# Altium schematic symbol library MySchLib.SchLib: 53 symbols
Pins are listed as number, name and electrical type; pins without a type are passive.

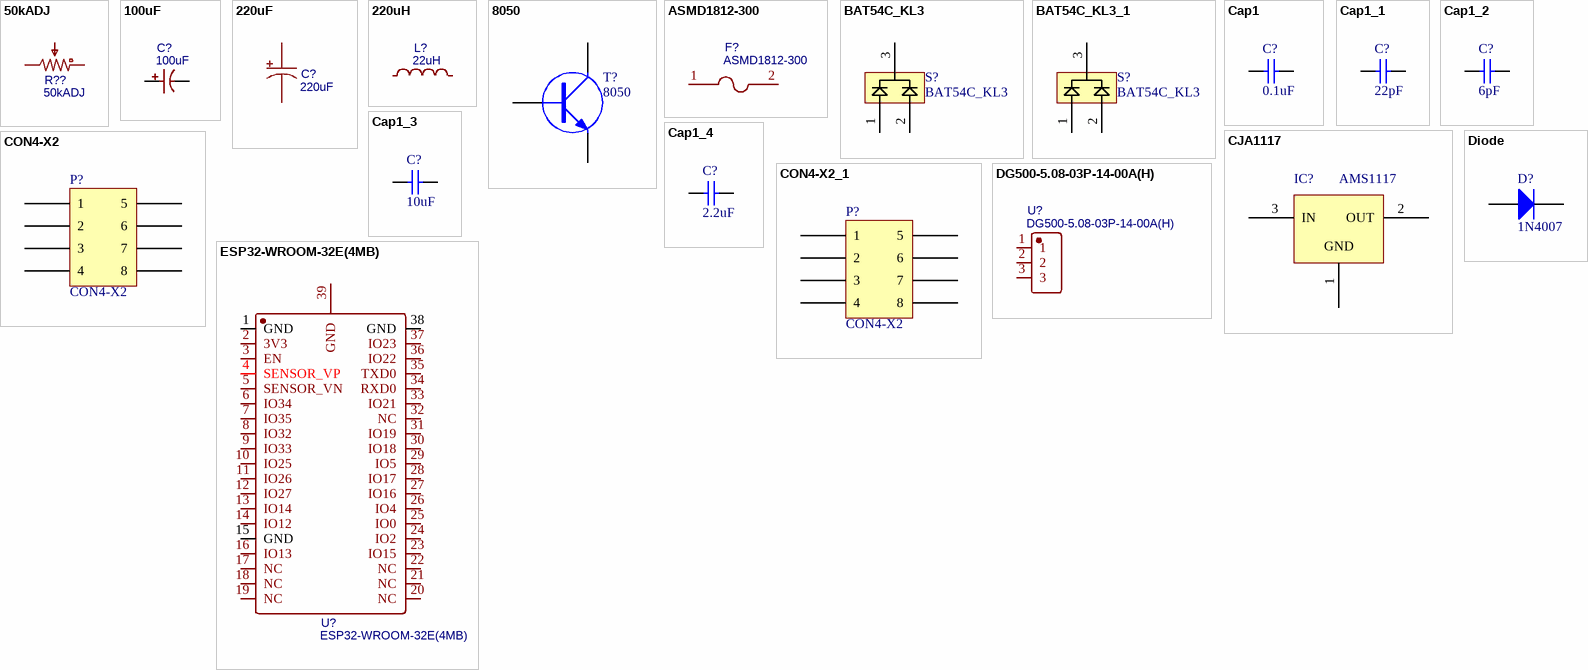
[diagram p0: symbols 50kADJ to ESP32-WROOM-32E(4MB)]

## 50kADJ
designator R??
BOM_Manufacturer: Chengdu Guosheng Tech; BOM_Manufacturer Part: 3296W-1-503; Resistance(Ohms): 50K; nameAlias: Resistance (Ohms); Contributor: LCSC; BOM_Paste Type: expand; BOM_Assembly Type: manualWeld; BOM_Supplier: LCSC; BOM_Supplier Part: C118911; spicePre: R; spiceSymbolName: 3296W-1-503
footprint 50kADJ
pins: 1, 2, 3

## 100uF
designator C?
BOM_Manufacturer: HONOR; BOM_Manufacturer Part: RVT1H101M0810; nameAlias: Capacitance; BOM_Supplier: LCSC; BOM_Supplier Part: C3352; spicePre: C; spiceSymbolName: RVT1H101M0810
footprint 100uF
pins: 1, 2

## 220uF
designator C?
BOM_Manufacturer: ROQANG; BOM_Manufacturer Part: VT1V221M0810; nameAlias: Capacitance; Contributor: LCSC; BOM_Supplier: LCSC; BOM_Supplier Part: C310848; spicePre: C; spiceSymbolName: VT1V221M0810
footprint 220uF
pins: 1, 2

## 220uH
designator L?, comment 22uH
BOM_Manufacturer: Sunltech Tech; BOM_Manufacturer Part: SLO1235H220MTT; nameAlias: Inductance; Contributor: LCSC; BOM_Supplier: LCSC; BOM_Supplier Part: C364099; spicePre: L; spiceSymbolName: SLO1235H220MTT
footprint 220
pins: 1, 2

## 8050
designator T?
footprint TO92B
footprint SO-G3/C2.25 (SOT-23; 3 Leads; Body 3.0 x 2.5 mm, inc. leads (LxW max))
pins: 1 E, 2 B, 3 C

## ASMD1812-300
designator F?
BOM_Manufacturer: JDTFUSE; Contributor: LCSC; BOM_Paste Type: recommend; BOM_Assembly Type: smtWeld; BOM_Supplier: LCSC; BOM_Manufacturer Part: ASMD1812-300; BOM_Supplier Part: C135366; spicePre: F; spiceSymbolName: ASMD1812-300
footprint FUSE
pins: 1, 2

## BAT54C_KL3
designator S?
footprint BAT54C_KL3
pins: 1, 2, 3

## BAT54C_KL3_1
designator S?, comment BAT54C_KL3
footprint SO-G3/C2.25 (SOT-23; 3 Leads; Body 3.0 x 2.5 mm, inc. leads (LxW max))
pins: 1, 2, 3

## Cap1
designator C?, comment 0.1uF
value: 0.1uF
footprint RAD0.2
footprint RAD0.3
footprint RAD0.4
footprint RAD0.5
footprint RAD0.6
footprint 0603-cap (Chip Capacitor, 2-Leads, Body 1.60x0.80mm, IPC Medium Density)
footprint 0805-CAP (Chip Capacitor, 2-Leads, Body 2.80x1.40mm, IPC Medium Density)
footprint 0402-CAP (Chip Capacitor, 2-Leads, Body 1.00x0.50mm, IPC Medium Density)
pins: 1, 2

## Cap1_1
designator C?, comment 22pF
value: 22pF
footprint RAD0.2
footprint RAD0.3
footprint RAD0.4
footprint RAD0.5
footprint RAD0.6
footprint 0603-cap (Chip Capacitor, 2-Leads, Body 1.60x0.80mm, IPC Medium Density)
footprint 0805-CAP (Chip Capacitor, 2-Leads, Body 2.80x1.40mm, IPC Medium Density)
footprint 0402-CAP (Chip Capacitor, 2-Leads, Body 1.00x0.50mm, IPC Medium Density)
pins: 1, 2

## Cap1_2
designator C?, comment 6pF
value: 6pF
footprint RAD0.2
footprint RAD0.3
footprint RAD0.4
footprint RAD0.5
footprint RAD0.6
footprint 0603-cap (Chip Capacitor, 2-Leads, Body 1.60x0.80mm, IPC Medium Density)
footprint 0805-CAP (Chip Capacitor, 2-Leads, Body 2.80x1.40mm, IPC Medium Density)
footprint 0402-CAP (Chip Capacitor, 2-Leads, Body 1.00x0.50mm, IPC Medium Density)
pins: 1, 2

## Cap1_3
designator C?, comment 10uF
value: 10uF
footprint RAD0.2
footprint RAD0.3
footprint RAD0.4
footprint RAD0.5
footprint RAD0.6
footprint 0603-cap (Chip Capacitor, 2-Leads, Body 1.60x0.80mm, IPC Medium Density)
footprint 0805-CAP (Chip Capacitor, 2-Leads, Body 2.80x1.40mm, IPC Medium Density)
footprint 0402-CAP (Chip Capacitor, 2-Leads, Body 1.00x0.50mm, IPC Medium Density)
pins: 1, 2

## Cap1_4
designator C?, comment 2.2uF
value: 2.2uF
footprint RAD0.2
footprint RAD0.3
footprint RAD0.4
footprint RAD0.5
footprint RAD0.6
footprint 0603-cap (Chip Capacitor, 2-Leads, Body 1.60x0.80mm, IPC Medium Density)
footprint 0805-CAP (Chip Capacitor, 2-Leads, Body 2.80x1.40mm, IPC Medium Density)
footprint 0402-CAP (Chip Capacitor, 2-Leads, Body 1.00x0.50mm, IPC Medium Density)
pins: 1, 2

## CJA1117
designator IC?, comment AMS1117
footprint SOT89 (SOT89, 3-Leads, Body 4.50x2.45mm, Pitch 1.50mm, Lead Span 4.1mm, IPC Medium Density)
pins: 1 GND, 2 OUT, 3 IN

## CON4-X2
designator P?
footprint 2X4P-2.5MM-SMD
footprint 2X4P-FANKE
pins: 1, 2, 3, 4, 5, 6, 7, 8

## CON4-X2_1
designator P?, comment CON4-X2
footprint 2X4P-2.5MM-SMD
footprint 2X4P-FANKE
pins: 1, 2, 3, 4, 5, 6, 7, 8

## DG500-5.08-03P-14-00A(H)
designator U?
BOM_Manufacturer: DEGSON; Contributor: LCSC; BOM_Paste Type: expand; BOM_Assembly Type: manualWeld; BOM_Supplier: LCSC; BOM_Supplier Part: C581322; BOM_Manufacturer Part: DG500-5.08-03P-14-00A(H); spicePre: U; spiceSymbolName: DG500-5.08-03P-14-00A(H)
footprint Pin3
pins: 1, 2, 3

## Diode
designator D?, comment 1N4007
footprint D1206
footprint D1812
footprint DIODE0.7
footprint DIODEV
footprint SS56
footprint SOD323 (SODFL, 2-Leads, Body 1.30x2.60mm, IPC Medium Density)
footprint SMB/DO-214AA
footprint SMA/DO-214AC
pins: 1 A, 2 K

## ESP32-WROOM-32E(4MB)
designator U?
BOM_Manufacturer: Espressif Systems; Contributor: LCSC; BOM_Paste Type: expand; BOM_Supplier: LCSC; BOM_Supplier Part: C701341; BOM_Manufacturer Part: ESP32-WROOM-32E(4MB); spicePre: U; spiceSymbolName: ESP32-WROOM-32E(4MB)
footprint ESP32-WROOM-32E
pins: 1 GND, 2 3V3, 3 EN, 4 SENSOR_VP, 5 SENSOR_VN, 6 IO34, 7 IO35, 8 IO32, 9 IO33, 10 IO25, 11 IO26, 12 IO27, 13 IO14, 14 IO12, 15 GND, 16 IO13, 17 NC, 18 NC, 19 NC, 20 NC, 21 NC, 22 NC, 23 IO15, 24 IO2, 25 IO0, 26 IO4, 27 IO16, 28 IO17, 29 IO5, 30 IO18, 31 IO19, 32 NC, 33 IO21, 34 RXD0, 35 TXD0, 36 IO22, 37 IO23, 38 GND, 39 GND

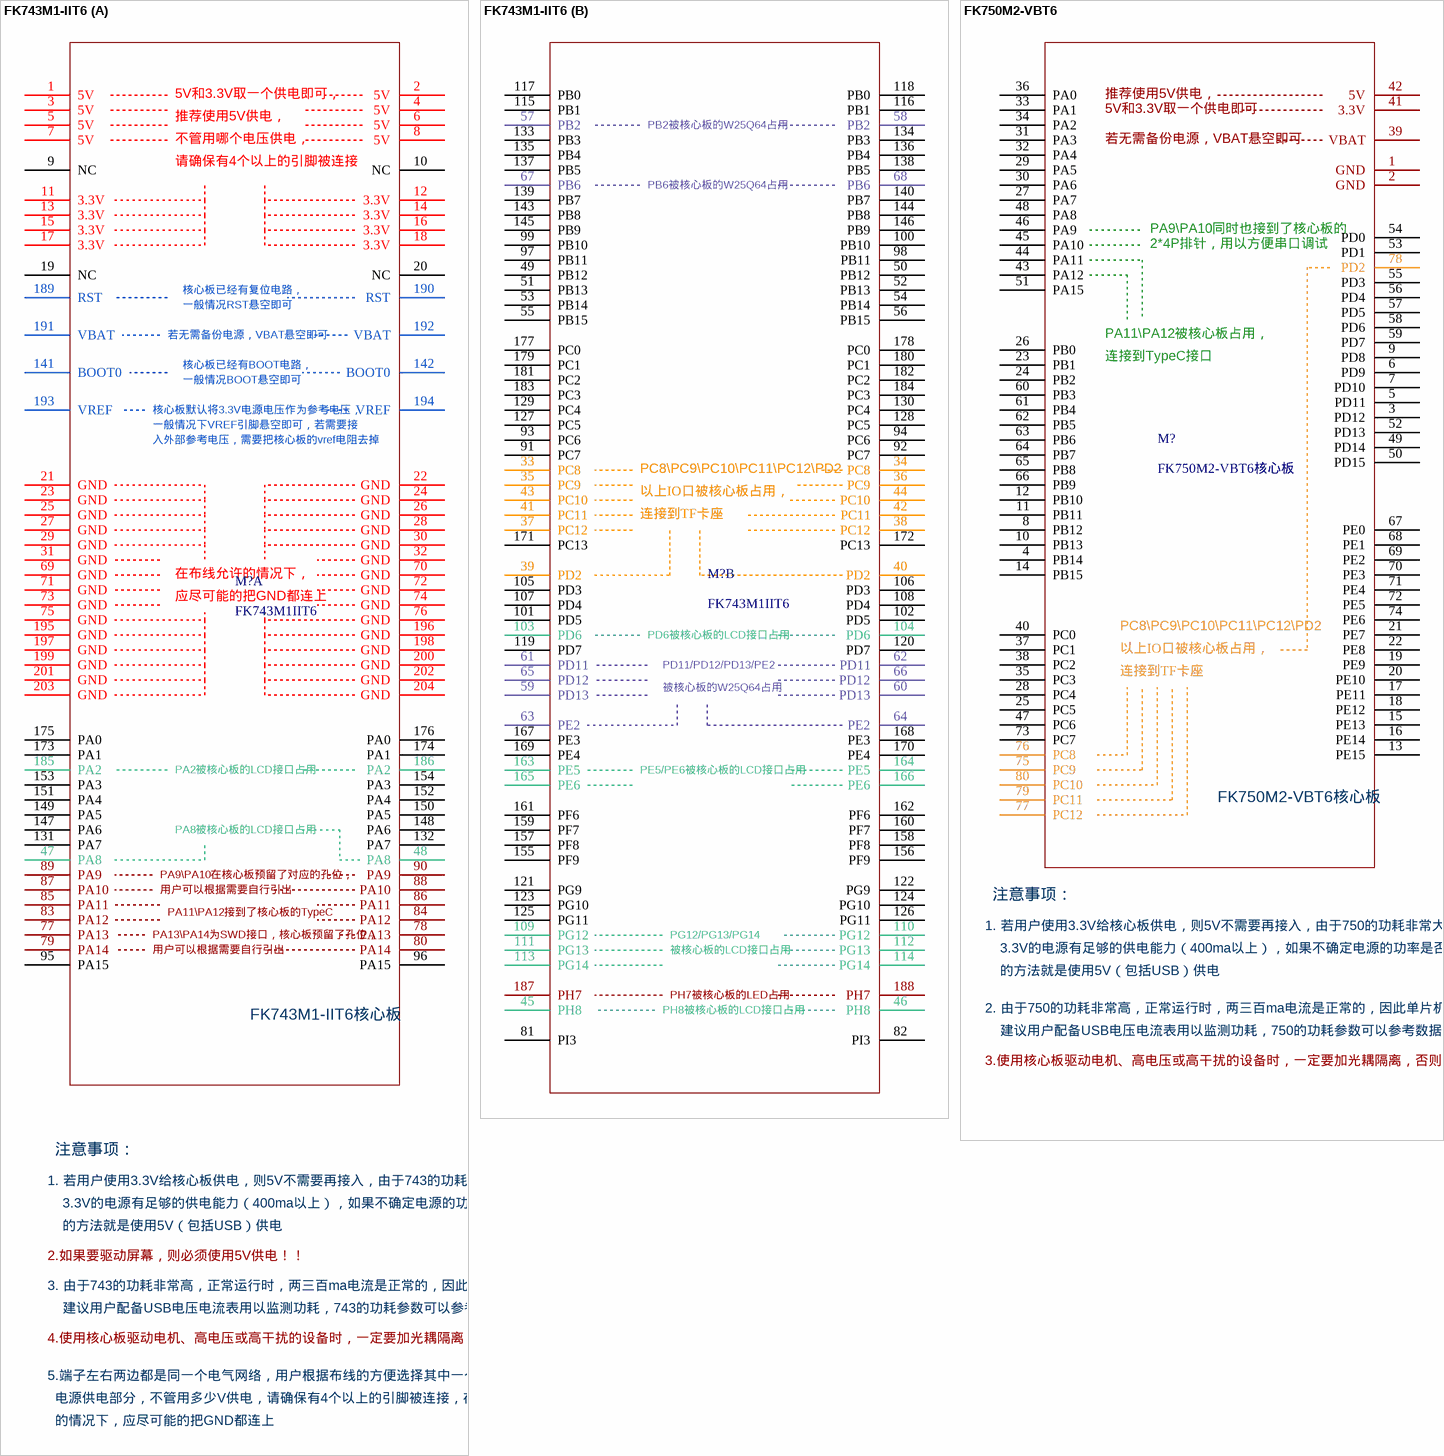
[diagram p1: symbols FK743M1-IIT6 to FK750M2-VBT6]

## FK743M1-IIT6
designator M?, comment FK743M1IIT6
footprint FK743M1-IIT6
part A pins: 1 5V, 2 5V, 3 5V, 4 5V, 5 5V, 6 5V, 7 5V, 8 5V, 9 NC, 10 NC, 11 3.3V, 12 3.3V, 13 3.3V, 14 3.3V, 15 3.3V, 16 3.3V, 17 3.3V, 18 3.3V, 19 NC, 20 NC, 21 GND, 22 GND, 23 GND, 24 GND, 25 GND, 26 GND, 27 GND, 28 GND, 29 GND, 30 GND, 31 GND, 32 GND, 47 PA8, 48 PA8, 69 GND, 70 GND, 71 GND, 72 GND, 73 GND, 74 GND, 75 GND, 76 GND, 77 PA13, 78 PA13, 79 PA14, 80 PA14, 83 PA12, 84 PA12, 85 PA11, 86 PA11, 87 PA10, 88 PA10, 89 PA9, 90 PA9, 95 PA15, 96 PA15, 131 PA7, 132 PA7, 141 BOOT0, 142 BOOT0, 147 PA6, 148 PA6, 149 PA5, 150 PA5, 151 PA4, 152 PA4, 153 PA3, 154 PA3, 173 PA1, 174 PA1, 175 PA0, 176 PA0, 185 PA2, 186 PA2, 189 RST, 190 RST, 191 VBAT, 192 VBAT, 193 VREF, 194 VREF, 195 GND, 196 GND, 197 GND, 198 GND, 199 GND, 200 GND, 201 GND, 202 GND, 203 GND, 204 GND
part B pins: 33 PC8, 34 PC8, 35 PC9, 36 PC9, 37 PC12, 38 PC12, 39 PD2, 40 PD2, 41 PC11, 42 PC11, 43 PC10, 44 PC10, 45 PH8, 46 PH8, 49 PB12, 50 PB12, 51 PB13, 52 PB13, 53 PB14, 54 PB14, 55 PB15, 56 PB15, 57 PB2, 58 PB2, 59 PD13, 60 PD13, 61 PD11, 62 PD11, 63 PE2, 64 PE2, 65 PD12, 66 PD12, 67 PB6, 68 PB6, 81 PI3, 82 PI3, 91 PC7, 92 PC7, 93 PC6, 94 PC6, 97 PB11, 98 PB11, 99 PB10, 100 PB10, 101 PD5, 102 PD5, 103 PD6, 104 PD6, 105 PD3, 106 PD3, 107 PD4, 108 PD4, 109 PG12, 110 PG12, 111 PG13, 112 PG13, 113 PG14, 114 PG14, 115 PB1, 116 PB1, 117 PB0, 118 PB0, 119 PD7, 120 PD7, 121 PG9, 122 PG9, 123 PG10, 124 PG10, 125 PG11, 126 PG11, 127 PC5, 128 PC5, 129 PC4, 130 PC4, 133 PB3, 134 PB3, 135 PB4, 136 PB4, 137 PB5, 138 PB5, 139 PB7, 140 PB7, 143 PB8, 144 PB8, 145 PB9, 146 PB9, 155 PF9, 156 PF9, 157 PF8, 158 PF8, 159 PF7, 160 PF7, 161 PF6, 162 PF6, 163 PE5, 164 PE5, 165 PE6, 166 PE6, 167 PE3, 168 PE3, 169 PE4, 170 PE4, 171 PC13, 172 PC13, 177 PC0, 178 PC0, 179 PC1, 180 PC1, 181 PC2, 182 PC2, 183 PC3, 184 PC3, 187 PH7, 188 PH7
part A text: 5V和3.3V取一个供电即可，; 推荐使用5V供电，; 不管用哪个电压供电，; 请确保有4个以上的引脚被连接; 核心板已经有复位电路，; 一般情况RST悬空即可; 若无需备份电源，VBAT悬空即可; 核心板已经有BOOT电路，; 一般情况BOOT悬空即可; 核心板默认将3.3V电源电压作为参考电压，; 一般情况下VREF引脚悬空即可，若需要接; 入外部参考电压，需要把核心板的vref电阻去掉; 在布线允许的情况下，; 应尽可能的把GND都连上; PA2被核心板的LCD接口占用; PA8被核心板的LCD接口占用; PA9\PA10在核心板预留了对应的孔位，; 用户可以根据需要自行引出; PA11\PA12接到了核心板的TypeC; PA13\PA14为SWD接口，核心板预留了孔位，; FK743M1-IIT6核心板; 注意事项：; 1. 若用户使用3.3V给核心板供电，则5V不需要再接入，由于743的功耗非常大，必须要确保; 3.3V的电源有足够的供电能力（400ma以上），如果不确定电源的功率是否足够，最简单; 的方法就是使用5V（包括USB）供电; 2.如果要驱动屏幕，则必须使用5V供电！！; 3. 由于743的功耗非常高，正常运行时，两三百ma电流是正常的，因此单片机发热会很严重，; 建议用户配备USB电压电流表用以监测功耗，743的功耗参数可以参考数据手册的相关说明; 4.使用核心板驱动电机、高电压或高干扰的设备时，一定要加光耦隔离，否则很容易损坏单片机！！！; 5.端子左右两边都是同一个电气网络，用户根据布线的方便选择其中一个连接即可，; 电源供电部分，不管用多少V供电，请确保有4个以上的引脚被连接，在布线允许; 的情况下，应尽可能的把GND都连上
part B text: PB2被核心板的W25Q64占用; PB6被核心板的W25Q64占用; PC8\PC9\PC10\PC11\PC12\PD2; 以上IO口被核心板占用，; 连接到TF卡座; PD6被核心板的LCD接口占用; PD11/PD12/PD13/PE2; 被核心板的W25Q64占用; PE5/PE6被核心板的LCD接口占用; PG12/PG13/PG14; 被核心板的LCD接口占用; PH7被核心板的LED占用; PH8被核心板的LCD接口占用

## FK750M2-VBT6
designator M?, comment FK750M2-VBT6核心板
footprint FK750M2-VBT6(精简版)
pins: 1 GND, 2 GND, 3 PD12, 4 PB14, 5 PD11, 6 PD9, 7 PD10, 8 PB12, 9 PD8, 10 PB13, 11 PB11, 12 PB10, 13 PE15, 14 PB15, 15 PE13, 16 PE14, 17 PE11, 18 PE12, 19 PE9, 20 PE10, 21 PE7, 22 PE8, 23 PB1, 24 PB2, 25 PC5, 26 PB0, 27 PA7, 28 PC4, 29 PA5, 30 PA6, 31 PA3, 32 PA4, 33 PA1, 34 PA2, 35 PC3, 36 PA0, 37 PC1, 38 PC2, 39 VBAT, 40 PC0, 41 3.3V, 42 5V, 43 PA12, 44 PA11, 45 PA10, 46 PA9, 47 PC6, 48 PA8, 49 PD14, 50 PD15, 51 PA15, 52 PD13, 53 PD1, 54 PD0, 55 PD3, 56 PD4, 57 PD5, 58 PD6, 59 PD7, 60 PB3, 61 PB4, 62 PB5, 63 PB6, 64 PB7, 65 PB8, 66 PB9, 67 PE0, 68 PE1, 69 PE2, 70 PE3, 71 PE4, 72 PE5, 73 PC7, 74 PE6, 75 PC9, 76 PC8, 77 PC12, 78 PD2, 79 PC11, 80 PC10
text: 推荐使用5V供电，; 5V和3.3V取一个供电即可; 若无需备份电源，VBAT悬空即可; PA9\PA10同时也接到了核心板的; 2*4P排针，用以方便串口调试; PA11\PA12被核心板占用，; 连接到TypeC接口; PC8\PC9\PC10\PC11\PC12\PD2; 以上IO口被核心板占用，; 连接到TF卡座; 注意事项：; 1. 若用户使用3.3V给核心板供电，则5V不需要再接入，由于750的功耗非常大，必须要确保; 3.3V的电源有足够的供电能力（400ma以上），如果不确定电源的功率是否足够，最简单; 的方法就是使用5V（包括USB）供电; 2. 由于750的功耗非常高，正常运行时，两三百ma电流是正常的，因此单片机发热会很严重，; 建议用户配备USB电压电流表用以监测功耗，750的功耗参数可以参考数据手册的相关说明; 3.使用核心板驱动电机、高电压或高干扰的设备时，一定要加光耦隔离，否则很容易损坏单片机！！！

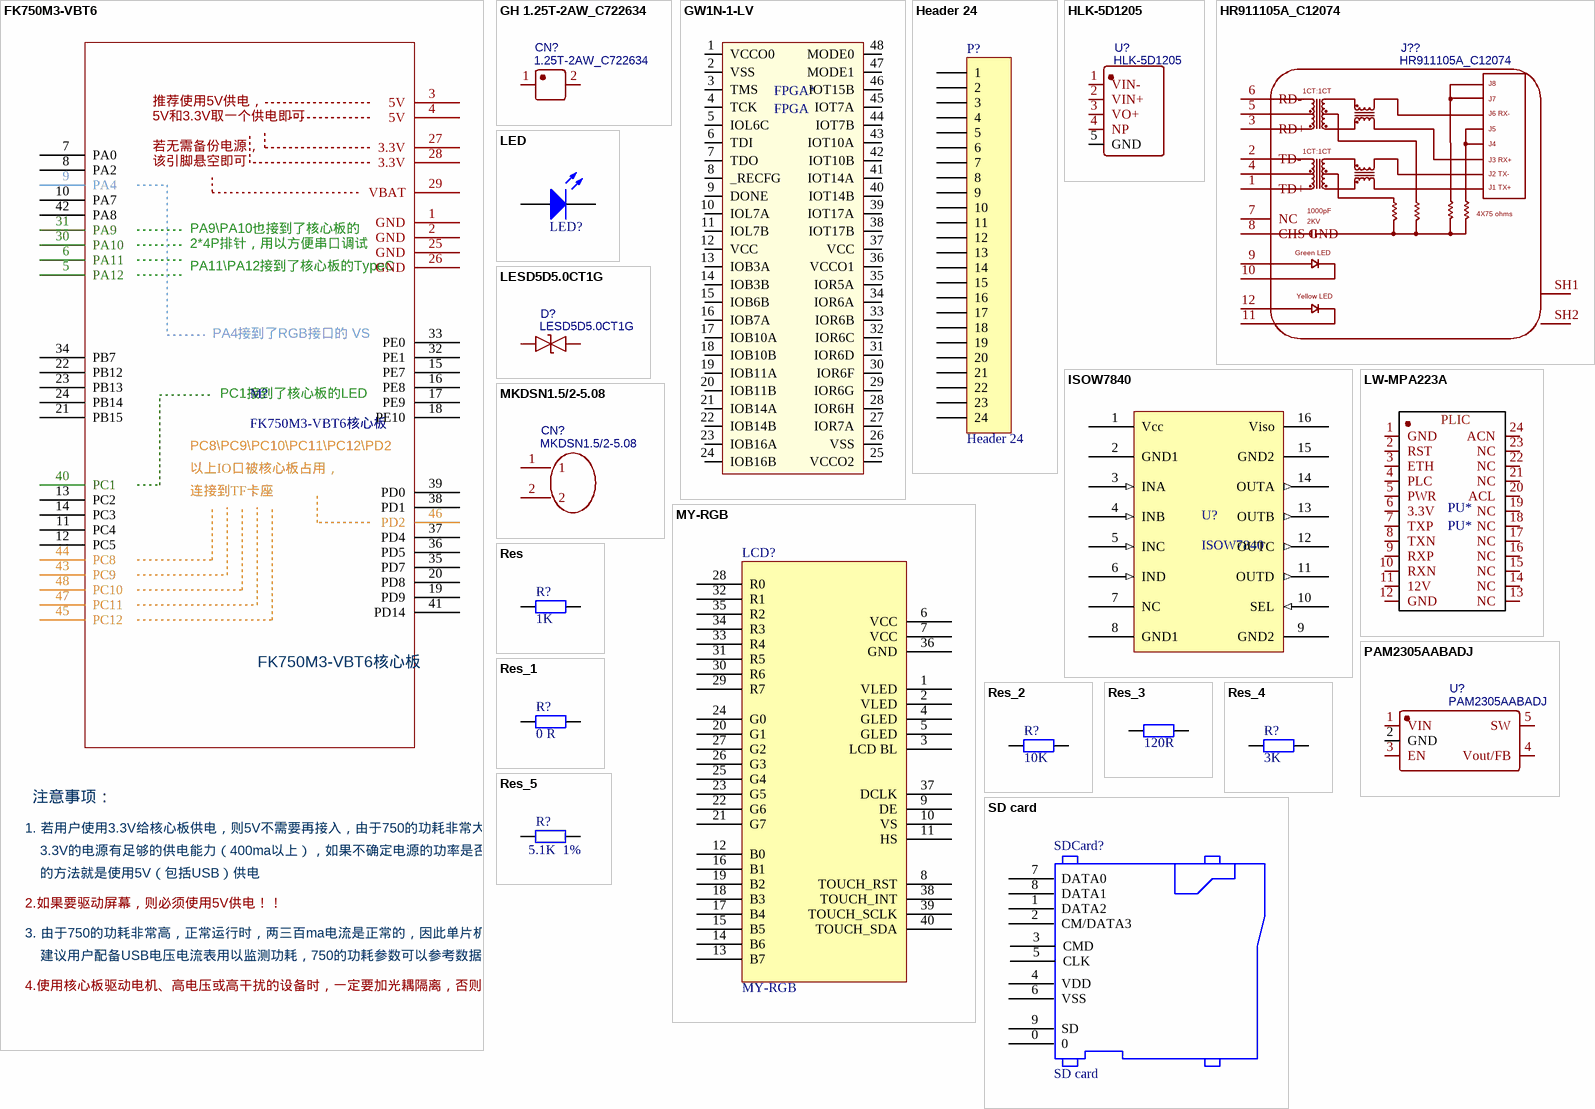
[diagram p2: symbols FK750M3-VBT6 to SD card]

## FK750M3-VBT6
designator M?, comment FK750M3-VBT6核心板
footprint FK750M3-VBT6直插
footprint FK750M3-VBT6半孔贴装
pins: 1 GND, 2 GND, 3 5V, 4 5V, 5 PA12, 6 PA11, 7 PA0, 8 PA2, 9 PA4, 10 PA7, 11 PC4, 12 PC5, 13 PC2, 14 PC3, 15 PE7, 16 PE8, 17 PE9, 18 PE10, 19 PD9, 20 PD8, 21 PB15, 22 PB12, 23 PB13, 24 PB14, 25 GND, 26 GND, 27 3.3V, 28 3.3V, 29 VBAT, 30 PA10, 31 PA9, 32 PE1, 33 PE0, 34 PB7, 35 PD7, 36 PD5, 37 PD4, 38 PD1, 39 PD0, 40 PC1, 41 PD14, 42 PA8, 43 PC9, 44 PC8, 45 PC12, 46 PD2, 47 PC11, 48 PC10
text: 推荐使用5V供电，; 5V和3.3V取一个供电即可; 若无需备份电源，; 该引脚悬空即可; PA9\PA10也接到了核心板的; 2*4P排针，用以方便串口调试; PA11\PA12接到了核心板的TypeC; PA4接到了RGB接口的 VS; PC1接到了核心板的LED; PC8\PC9\PC10\PC11\PC12\PD2; 以上IO口被核心板占用，; 连接到TF卡座; 注意事项：; 1. 若用户使用3.3V给核心板供电，则5V不需要再接入，由于750的功耗非常大，必须要确保; 3.3V的电源有足够的供电能力（400ma以上），如果不确定电源的功率是否足够，最简单; 的方法就是使用5V（包括USB）供电; 2.如果要驱动屏幕，则必须使用5V供电！！; 3. 由于750的功耗非常高，正常运行时，两三百ma电流是正常的，因此单片机发热会很严重，; 建议用户配备USB电压电流表用以监测功耗，750的功耗参数可以参考数据手册的相关说明; 4.使用核心板驱动电机、高电压或高干扰的设备时，一定要加光耦隔离，否则很容易损坏单片机！！！

## GH 1.25T-2AW_C722634
designator CN?, comment 1.25T-2AW_C722634
BOM_Manufacturer: CAX; Contributor: LCSC; BOM_Paste Type: expand; BOM_Supplier: LCSC; BOM_Supplier Part: C722634; BOM_Manufacturer Part: 1.25T-2AW; spicePre: C; spiceSymbolName: 1.25T-2AW_C722634
footprint GH1.25
pins: 1, 2

## GW1N-1-LV
designator FPGA*, comment FPGA
footprint QFN48 6X6 (QFN, 48-Leads, Body 7.00x7.00mm, Pitch 0.50mm, Thermal Pad 5.73x5.73mm, IPC Medium Density)
pins: 1 VCCO0, 2 VSS, 3 TMS, 4 TCK, 5 IOL6C, 6 TDI, 7 TDO, 8 _RECFG, 9 DONE, 10 IOL7A, 11 IOL7B, 12 VCC, 13 IOB3A, 14 IOB3B, 15 IOB6B, 16 IOB7A, 17 IOB10A, 18 IOB10B, 19 IOB11A, 20 IOB11B, 21 IOB14A, 22 IOB14B, 23 IOB16A, 24 IOB16B, 25 VCCO2, 26 VSS, 27 IOR7A, 28 IOR6H, 29 IOR6G, 30 IOR6F, 31 IOR6D, 32 IOR6C, 33 IOR6B, 34 IOR6A, 35 IOR5A, 36 VCCO1, 37 VCC, 38 IOT17B, 39 IOT17A, 40 IOT14B, 41 IOT14A, 42 IOT10B, 43 IOT10A, 44 IOT7B, 45 IOT7A, 46 IOT15B, 47 MODE1, 48 MODE0

## Header 24
designator P?
Header, 24-Pin; LatestRevisionDate: 17-Jul-2002; LatestRevisionNote: Re-released for DXP Platform.; Publisher: Altium Limited
footprint HDR1X24 (Connector; Header; 24 Position)
signal-integrity model Connector
pins: 1, 2, 3, 4, 5, 6, 7, 8, 9, 10, 11, 12, 13, 14, 15, 16, 17, 18, 19, 20, 21, 22, 23, 24

## HLK-5D1205
designator U?
BOM_Manufacturer: HI-LINK; Contributor: LCSC; BOM_Paste Type: expand; BOM_Supplier: LCSC; BOM_Supplier Part: C474033; BOM_Manufacturer Part: HLK-5D1205; spicePre: U; spiceSymbolName: HLK-5D1205
footprint HLK-5D1205
pins: 1 VIN-, 2 VIN+, 3 VO+, 4 NP, 5 GND

## HR911105A_C12074
designator J??
BOM_Manufacturer: HANRUN; BOM_Paste Type: expand; BOM_Assembly Type: manualWeld; BOM_Supplier: LCSC; BOM_Manufacturer Part: HR911105A; image: //image.lceda.cn/szlcsc/C12074.jpg; BOM_Supplier Part: C12074; spicePre: J; spiceSymbolName: HR911105A_C12074
footprint RJ45
pins: 1 TD+, 2 TD-, 3 RD+, 4, 5, 6 RD-, 7 NC, 8 CHS GND, 9, 10, 11, 12, SH1, SH2
text: J8; 1CT:1CT; J7; J6 RX-; J5; J4; J3 RX+; J2 TX-; J1 TX+; 1000pF; 4X75 ohms; 2KV; Green LED; Yellow LED

## ISOW7840
designator U?
footprint ISOW7840 (SOIC, 16-Leads, Body 10.30x7.50mm, Pitch 1.27mm, IPC Medium Density)
pins: 1 Vcc (power), 2 GND1 (power), 3 INA (in), 4 INB (in), 5 INC (in), 6 IND (in), 7 NC, 8 GND1 (power), 9 GND2 (power), 10 SEL (in), 11 OUTD (out), 12 OUTC (out), 13 OUTB (out), 14 OUTA (out), 15 GND2 (power), 16 Viso (power)

## LED
designator LED?  (value not drawn)
footprint D0805
footprint LED1
footprint LED2
footprint D1206
footprint D0603
pins: 1 A, 2 K

## LESD5D5.0CT1G
designator D?
BOM_Manufacturer: Leshan Radio; Contributor: LCSC; BOM_Paste Type: expand; BOM_Supplier: LCSC; BOM_Supplier Part: C383211; BOM_Manufacturer Part: LESD5D5.0CT1G; spicePre: D; spiceSymbolName: LESD5D5.0CT1G
footprint LESD5D5.0CT1G
pins: 1, 2

## LW-MPA223A
designator PU*, comment PU*
footprint LW-MPA223A
pins: 1 GND, 2 RST, 3 ETH, 4 PLC, 5 PWR, 6 3.3V, 7 TXP, 8 TXN, 9 RXP, 10 RXN, 11 12V, 12 GND, 13 NC, 14 NC, 15 NC, 16 NC, 17 NC, 18 NC, 19 NC, 20 ACL, 21 NC, 22 NC, 23 NC, 24 ACN
text: PLIC

## MKDSN1.5/2-5.08
designator CN?
BOM_Manufacturer: Phoenix Contact; BOM_Paste Type: expand; BOM_Assembly Type: manualWeld; BOM_Supplier: LCSC; BOM_Manufacturer Part: MKDSN1.5/2-5.08; BOM_Supplier Part: C91153; spicePre: C; spiceSymbolName: MKDSN1.5/2-5.08
footprint Pin2
pins: 1, 2

## MY-RGB
designator LCD?
footprint FPC40P-0.5MM
footprint fpc40p-0.5-mirror
footprint FPC40P-0.5-FK750M3
pins: 1 VLED, 2 VLED, 3 LCD BL, 4 GLED, 5 GLED, 6 VCC, 7 VCC, 8 TOUCH_RST, 9 DE, 10 VS, 11 HS, 12 B0, 13 B7, 14 B6, 15 B5, 16 B1, 17 B4, 18 B3, 19 B2, 20 G1, 21 G7, 22 G6, 23 G5, 24 G0, 25 G4, 26 G3, 27 G2, 28 R0, 29 R7, 30 R6, 31 R5, 32 R1, 33 R4, 34 R3, 35 R2, 36 GND, 37 DCLK, 38 TOUCH_INT, 39 TOUCH_SCLK, 40 TOUCH_SDA

## PAM2305AABADJ
designator U?
BOM_Manufacturer: Diodes Incorporated; Contributor: LCSC; BOM_Supplier: LCSC; BOM_Supplier Part: C264079; BOM_Manufacturer Part: PAM2305AABADJ; BOM_JLCPCB Part Class: Extended Part; spicePre: U; spiceSymbolName: PAM2305AABADJ
footprint pam2305aabadj
pins: 1 VIN, 2 GND, 3 EN, 4 Vout/FB, 5 SW

## Res
designator R?, comment 1K
value: 1K
footprint AXIAL0.4
footprint AXIAL0.8
footprint 2512
footprint AXIAL0.5
footprint AXIAL0.6
footprint 0603-res
footprint 0805-res (Chip Resistor, 2-Leads, Body 2.20x1.25mm, IPC Medium Density)
footprint 0402-RES (Chip Resistor, 2-Leads, Body 1.00x0.50mm, IPC Medium Density)
pins: 1, 2

## Res_1
designator R?, comment 0 R
value: 0 R
footprint AXIAL0.4
footprint AXIAL0.8
footprint 2512
footprint AXIAL0.5
footprint AXIAL0.6
footprint 0603-res
footprint 0805-res (Chip Resistor, 2-Leads, Body 2.20x1.25mm, IPC Medium Density)
footprint 0402-RES (Chip Resistor, 2-Leads, Body 1.00x0.50mm, IPC Medium Density)
pins: 1, 2

## Res_2
designator R?, comment 10K
value: 10K
footprint AXIAL0.4
footprint AXIAL0.8
footprint 2512
footprint AXIAL0.5
footprint AXIAL0.6
footprint 0603-res
footprint 0805-res (Chip Resistor, 2-Leads, Body 2.20x1.25mm, IPC Medium Density)
footprint 0402-RES (Chip Resistor, 2-Leads, Body 1.00x0.50mm, IPC Medium Density)
footprint 1206 - RES (Chip Resistor, 2-Leads, Body 3.20x1.60mm, IPC Medium Density)
pins: 1, 2

## Res_3
designator R?, comment 120R
value: 120R
footprint AXIAL0.4
footprint AXIAL0.8
footprint 2512
footprint AXIAL0.5
footprint AXIAL0.6
footprint 0603-res
footprint 0805-res (Chip Resistor, 2-Leads, Body 2.20x1.25mm, IPC Medium Density)
footprint 0402-RES (Chip Resistor, 2-Leads, Body 1.00x0.50mm, IPC Medium Density)
footprint 1206 - RES (Chip Resistor, 2-Leads, Body 3.20x1.60mm, IPC Medium Density)
pins: 1, 2

## Res_4
designator R?, comment 3K
value: 3K
footprint AXIAL0.4
footprint AXIAL0.8
footprint 2512
footprint AXIAL0.5
footprint AXIAL0.6
footprint 0603-res
footprint 0805-res (Chip Resistor, 2-Leads, Body 2.20x1.25mm, IPC Medium Density)
footprint 0402-RES (Chip Resistor, 2-Leads, Body 1.00x0.50mm, IPC Medium Density)
pins: 1, 2

## Res_5
designator R?, comment 5.1K  1%
value: 5.1K  1%
footprint AXIAL0.4
footprint AXIAL0.8
footprint 2512
footprint AXIAL0.5
footprint AXIAL0.6
footprint 0603-res
footprint 0805-res (Chip Resistor, 2-Leads, Body 2.20x1.25mm, IPC Medium Density)
footprint 0402-RES (Chip Resistor, 2-Leads, Body 1.00x0.50mm, IPC Medium Density)
pins: 1, 2

## SD card
designator SDCard?
footprint SD_CARD
pins: 0, 1 DATA2, 2 CM/DATA3, 3 CMD, 4 VDD, 5 CLK, 6 VSS, 7 DATA0, 8 DATA1, 9 SD

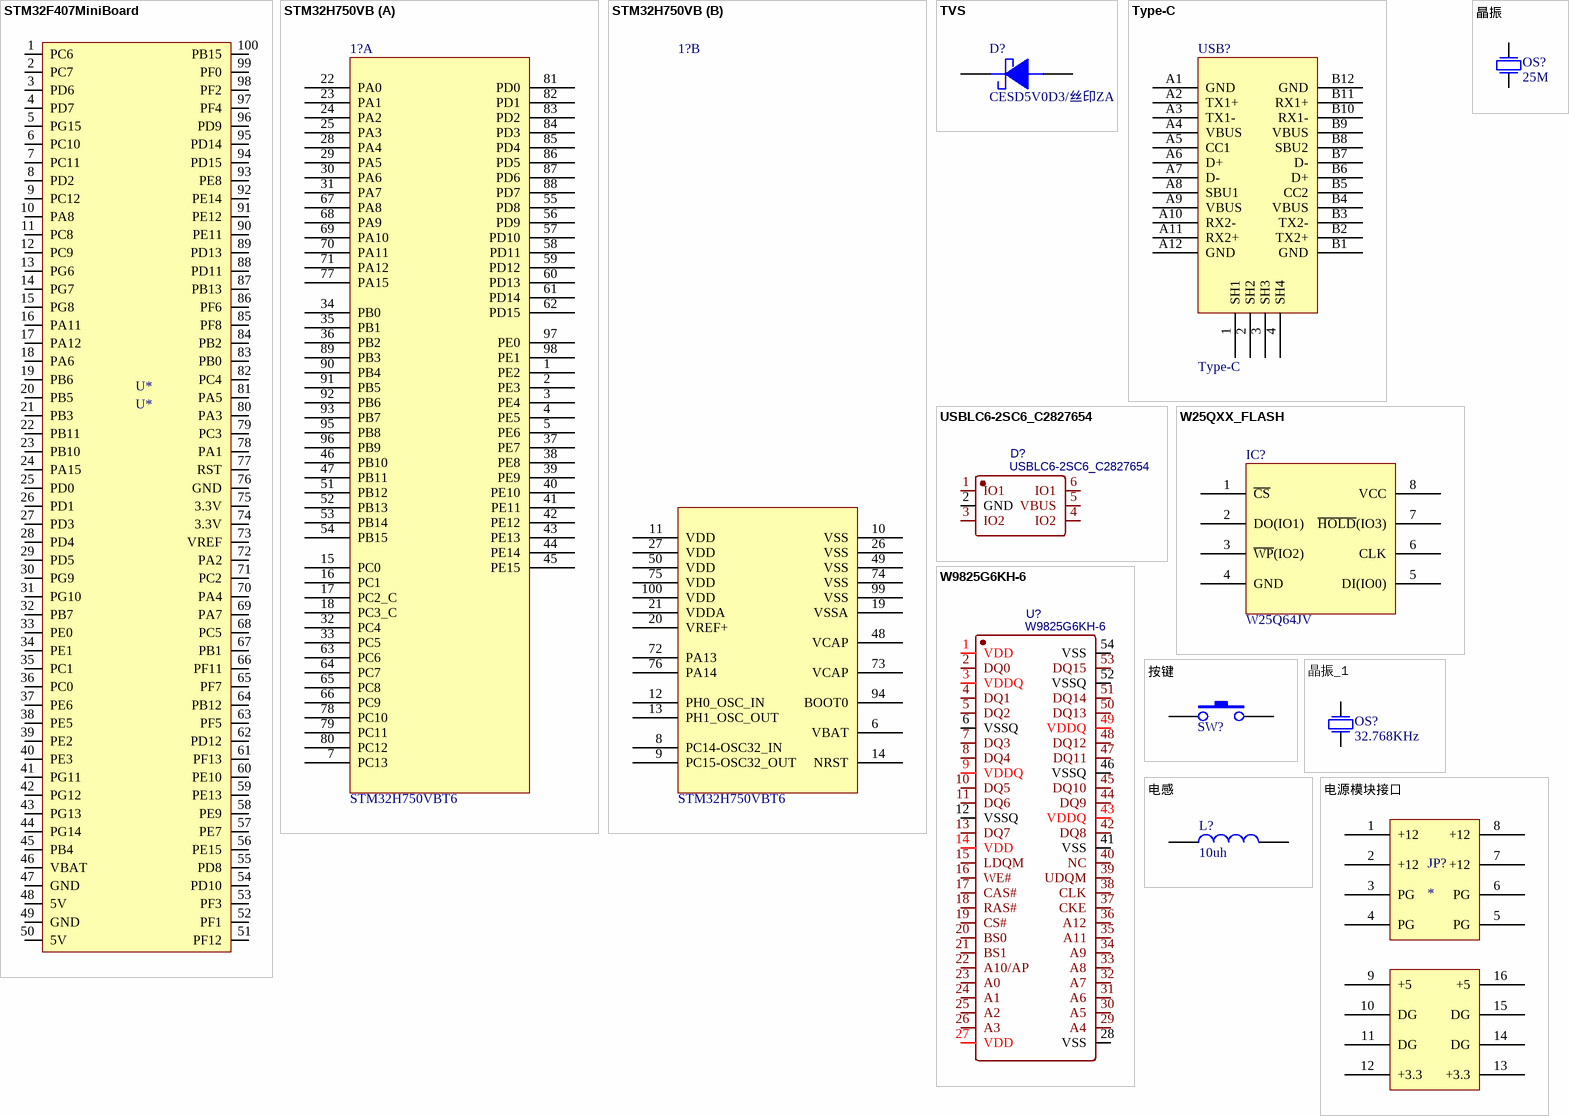
[diagram p3: symbols STM32F407MiniBoard to 电源模块接口]

## STM32F407MiniBoard
designator U*, comment U*
footprint STM32F407MiniBoard
pins: 1 PC6, 2 PC7, 3 PD6, 4 PD7, 5 PG15, 6 PC10, 7 PC11, 8 PD2, 9 PC12, 10 PA8, 11 PC8, 12 PC9, 13 PG6, 14 PG7, 15 PG8, 16 PA11, 17 PA12, 18 PA6, 19 PB6, 20 PB5, 21 PB3, 22 PB11, 23 PB10, 24 PA15, 25 PD0, 26 PD1, 27 PD3, 28 PD4, 29 PD5, 30 PG9, 31 PG10, 32 PB7, 33 PE0, 34 PE1, 35 PC1, 36 PC0, 37 PE6, 38 PE5, 39 PE2, 40 PE3, 41 PG11, 42 PG12, 43 PG13, 44 PG14, 45 PB4, 46 VBAT, 47 GND, 48 5V, 49 GND, 50 5V, 51 PF12, 52 PF1, 53 PF3, 54 PD10, 55 PD8, 56 PE15, 57 PE7, 58 PE9, 59 PE13, 60 PE10, 61 PF13, 62 PD12, 63 PF5, 64 PB12, 65 PF7, 66 PF11, 67 PB1, 68 PC5, 69 PA7, 70 PA4, 71 PC2, 72 PA2, 73 VREF, 74 3.3V, 75 3.3V, 76 GND, 77 RST, 78 PA1, 79 PC3, 80 PA3, 81 PA5, 82 PC4, 83 PB0, 84 PB2, 85 PF8, 86 PF6, 87 PB13, 88 PD11, 89 PD13, 90 PE11, 91 PE12, 92 PE14, 93 PE8, 94 PD15, 95 PD14, 96 PD9, 97 PF4, 98 PF2, 99 PF0, 100 PB15

## STM32H750VB
designator 1?, comment STM32H750VBT6
footprint F-QFP14x14-G100/P.5N (QFP; 100 Leads; Body 14 x 14 mm; Pitch 0.5 mm)
part A pins: 1 PE2, 2 PE3, 3 PE4, 4 PE5, 5 PE6, 7 PC13, 15 PC0, 16 PC1, 17 PC2_C, 18 PC3_C, 22 PA0, 23 PA1, 24 PA2, 25 PA3, 28 PA4, 29 PA5, 30 PA6, 31 PA7, 32 PC4, 33 PC5, 34 PB0, 35 PB1, 36 PB2, 37 PE7, 38 PE8, 39 PE9, 40 PE10, 41 PE11, 42 PE12, 43 PE13, 44 PE14, 45 PE15, 46 PB10, 47 PB11, 51 PB12, 52 PB13, 53 PB14, 54 PB15, 55 PD8, 56 PD9, 57 PD10, 58 PD11, 59 PD12, 60 PD13, 61 PD14, 62 PD15, 63 PC6, 64 PC7, 65 PC8, 66 PC9, 67 PA8, 68 PA9, 69 PA10, 70 PA11, 71 PA12, 77 PA15, 78 PC10, 79 PC11, 80 PC12, 81 PD0, 82 PD1, 83 PD2, 84 PD3, 85 PD4, 86 PD5, 87 PD6, 88 PD7, 89 PB3, 90 PB4, 91 PB5, 92 PB6, 93 PB7, 95 PB8, 96 PB9, 97 PE0, 98 PE1
part B pins: 6 VBAT, 8 PC14-OSC32_IN, 9 PC15-OSC32_OUT, 10 VSS, 11 VDD, 12 PH0_OSC_IN, 13 PH1_OSC_OUT, 14 NRST, 19 VSSA, 20 VREF+, 21 VDDA, 26 VSS, 27 VDD, 48 VCAP, 49 VSS, 50 VDD, 72 PA13, 73 VCAP, 74 VSS, 75 VDD, 76 PA14, 94 BOOT0, 99 VSS, 100 VDD

## TVS
designator D?, comment CESD5V0D3/丝印ZA
footprint SOD323 (SODFL, 2-Leads, Body 1.30x2.60mm, IPC Medium Density)
footprint SMA/DO-214AC
footprint SMB/DO-214AA
pins: 1 +, 2 -

## Type-C
designator USB?
footprint Type-C (16pin)
pins: 1 SH1, 2 SH2, 3 SH3, 4 SH4, A1 GND, A2 TX1+, A3 TX1-, A4 VBUS, A5 CC1, A6 D+, A7 D-, A8 SBU1, A9 VBUS, A10 RX2-, A11 RX2+, A12 GND, B1 GND, B2 TX2+, B3 TX2-, B4 VBUS, B5 CC2, B6 D+, B7 D-, B8 SBU2, B9 VBUS, B10 RX1-, B11 RX1+, B12 GND

## USBLC6-2SC6_C2827654
designator D?
BOM_Manufacturer: TECH PUBLIC(台舟电子); Contributor: LCSC; BOM_Supplier: LCSC; BOM_Supplier Part: C2827654; BOM_Manufacturer Part: USBLC6-2SC6; spicePre: D; spiceSymbolName: USBLC6-2SC6_C2827654
footprint USBLC6-2SC6
pins: 1 IO1, 2 GND, 3 IO2, 4 IO2, 5 VBUS, 6 IO1

## W25QXX_FLASH
designator IC?, comment W25Q64JV
footprint SOIC-W-8
pins: 1 ~{CS}, 2 DO(IO1), 3 ~{WP}(IO2), 4 GND, 5 DI(IO0), 6 CLK, 7 ~{HOLD}(IO3), 8 VCC

## W9825G6KH-6
designator U?
BOM_Manufacturer: WINBOND; BOM_Supplier: LCSC; BOM_Manufacturer Part: W9825G6KH-6; BOM_Supplier Part: C62246; BOM_JLCPCB Part Class: Extended Part; spicePre: U; spiceSymbolName: W9825G6KH-6
footprint W9825G6KH
pins: 1 VDD, 2 DQ0, 3 VDDQ, 4 DQ1, 5 DQ2, 6 VSSQ, 7 DQ3, 8 DQ4, 9 VDDQ, 10 DQ5, 11 DQ6, 12 VSSQ, 13 DQ7, 14 VDD, 15 LDQM, 16 WE#, 17 CAS#, 18 RAS#, 19 CS#, 20 BS0, 21 BS1, 22 A10/AP, 23 A0, 24 A1, 25 A2, 26 A3, 27 VDD, 28 VSS, 29 A4, 30 A5, 31 A6, 32 A7, 33 A8, 34 A9, 35 A11, 36 A12, 37 CKE, 38 CLK, 39 UDQM, 40 NC, 41 VSS, 42 DQ8, 43 VDDQ, 44 DQ9, 45 DQ10, 46 VSSQ, 47 DQ11, 48 DQ12, 49 VDDQ, 50 DQ13, 51 DQ14, 52 VSSQ, 53 DQ15, 54 VSS

## 按键
designator SW?  (value not drawn)
footprint SW6*6
footprint SW12*12
footprint SWT5*5
footprint SWT6*3
footprint SWT3*4
pins: 1, 2

## 晶振
designator OS?, comment 25M
vaule: 25M
footprint JZ1
footprint JZ_O1
footprint JZ_O2
footprint FC135-3.2X1.5
footprint 3225
footprint 5032
footprint XTAL3
footprint 5032_2P
footprint 2016
footprint 1610
footprint 3215
pins: 1 P1, 2 P2

## 晶振_1
designator OS?, comment 32.768KHz
vaule: 32.768KHz
footprint JZ1
footprint JZ_O1
footprint JZ_O2
footprint FC135-3.2X1.5
footprint 3225
footprint 5032
footprint XTAL3
footprint 5032_2P
footprint 2016
footprint 1610
footprint 3215
pins: 1 P1, 2 P2

## 电感
designator L?, comment 10uh
footprint AXIAL0.5
footprint 0805 (Chip Resistor, 2-Leads, Body 2.0x1.3mm, IPC Medium Density)
footprint AXIAL0.7
footprint 7257
footprint L12.6
footprint 1210
footprint CDRH104R
footprint CDRH4D28
footprint 0603-res
footprint 0402-res
pins: 1, 2

## 电源模块接口
designator JP?
footprint 排针-座 2*4
pins: 1 +12, 2 +12, 3 PG, 4 PG, 5 PG, 6 PG, 7 +12, 8 +12, 9 +5, 10 DG, 11 DG, 12 +3.3, 13 +3.3, 14 DG, 15 DG, 16 +5